# Altium footprint library STM32H750VB CoreBoard WeActStudio.PcbLib: 2 footprints
Each footprint in its own frame and in the unit in brackets; x right, y up, seen from the top. Pads: shape width x height; smd on the part's side, far side on the other; paste and mask are expansions set on the pad; w line width, h text height; cw(c..) or ccw(c..) is an arc to the next point about the centre after c.
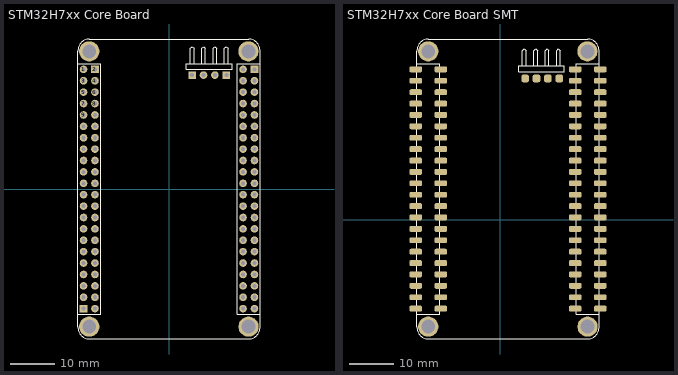
[diagram p0: the footprints below, top view; thin cyan lines are the x and y axes]

## STM32H7xx Core Board [mm] "STM32H7xx Core Board By WeActStudio"
height 0.508
pads (96):
  round 1.7 hole 0.9: 1(-19.05,26.67) 3(-19.05,24.13) 4(-16.51,24.13) 5(-19.05,21.59) 6(-16.51,21.59) 7(-19.05,19.05) 8(-16.51,19.05) 9(-19.05,16.51) 10(-16.51,16.51) 11(-19.05,13.97) 12(-16.51,13.97) 13(-19.05,11.43) 14(-16.51,11.43) 15(-19.05,8.89) 16(-16.51,8.89) 17(-19.05,6.35) 18(-16.51,6.35) 19(-19.05,3.81) 20(-16.51,3.81) 21(-19.05,1.27) 22(-16.51,1.27) 23(-19.05,-1.27) 24(-16.51,-1.27) 25(-19.05,-3.81) 26(-16.51,-3.81) 27(-19.05,-6.35) 28(-16.51,-6.35) 29(-19.05,-8.89) 30(-16.51,-8.89) 31(-19.05,-11.43) 32(-16.51,-11.43) 33(-19.05,-13.97) 34(-16.51,-13.97) 35(-19.05,-16.51) 36(-16.51,-16.51) 37(-19.05,-19.05) 38(-16.51,-19.05) 39(-19.05,-21.59) 40(-16.51,-21.59) 41(-19.05,-24.13) 42(-16.51,-24.13) 44(-16.51,-26.67) 45(16.51,-26.67) 46(19.05,-26.67) 47(16.51,-24.13) 48(19.05,-24.13) 49(16.51,-21.59) 50(19.05,-21.59) 51(16.51,-19.05) 52(19.05,-19.05) 53(16.51,-16.51) 54(19.05,-16.51) 55(16.51,-13.97) 56(19.05,-13.97) 57(16.51,-11.43) 58(19.05,-11.43) 59(16.51,-8.89) 60(19.05,-8.89) 61(16.51,-6.35) 62(19.05,-6.35) 63(16.51,-3.81) 64(19.05,-3.81) 65(16.51,-1.27) 66(19.05,-1.27) 67(16.51,1.27) 68(19.05,1.27) 69(16.51,3.81) 70(19.05,3.81) 71(16.51,6.35) 72(19.05,6.35) 73(16.51,8.89) 74(19.05,8.89) 75(16.51,11.43) 76(19.05,11.43) 77(16.51,13.97) 78(19.05,13.97) 79(16.51,16.51) 80(19.05,16.51) 81(16.51,19.05) 82(19.05,19.05) 83(16.51,21.59) 84(19.05,21.59) 85(16.51,24.13) 86(19.05,24.13) 87(16.51,26.67) 90(10.236,25.4) 91(7.696,25.4)
  rect 1.7x1.7 hole 0.9: 2(-16.51,26.67) 43(-19.05,-26.67) 88(19.05,26.67) 89(12.776,25.4) 92(5.156,25.4)
  round 4.5 hole 3.1: ""(-17.78,-30.69) ""(-17.78,30.69) ""(17.704,30.69) ""(17.729,-30.69)
Top Overlay:
  lines w0.2: -20.193,-27.94 -15.24,-27.94 -15.24,27.94 -20.193,27.94 ; 4.733,27.94 4.733,31.327 5.156,31.75 5.58,31.327 5.58,27.94 ; 7.273,27.94 7.273,31.327 7.696,31.75 8.12,31.327 8.12,27.94 ; 9.813,27.94 9.813,31.327 10.236,31.75 10.66,31.327 10.66,27.94 ; 12.353,27.94 12.353,31.327 12.776,31.75 13.2,31.327 13.2,27.94 ; 20.193,-27.94 15.24,-27.94 15.24,27.94 20.193,27.94 ; 3.886,26.67 3.886,27.94 14.046,27.94 14.046,26.67 3.886,26.67
  lines w0.254: -20.32,-30.69 ccw(c-17.675,-30.795) -17.78,-33.44 -15.24,-33.44 15.24,-33.44 17.78,-33.44 ccw(c17.675,-30.795) 20.32,-30.69 20.32,-27.94 20.32,27.94 20.32,30.69 ccw(c17.675,30.795) 17.78,33.44 15.24,33.44 -15.24,33.44 -17.78,33.44 ccw(c-17.675,30.795) -20.32,30.69 -20.32,27.94 -20.32,-27.94 -20.32,-30.69

## STM32H7xx Core Board SMT [mm] "STM32H7xx Core Board By WeActStudio"
pads (96):
  rrect50% 2.8x1.3 smd: 1(-18.791,33.528) 2(-13.213,33.528) 3(-18.791,30.988) 4(-13.213,30.988) 5(-18.791,28.448) 6(-13.213,28.448) 7(-18.791,25.908) 8(-13.213,25.908) 9(-18.791,23.368) 10(-13.213,23.368) 11(-18.791,20.828) 12(-13.213,20.828) 13(-18.791,18.288) 14(-13.213,18.288) 15(-18.791,15.748) 16(-13.213,15.748) 17(-18.791,13.208) 18(-13.213,13.208) 19(-18.791,10.668) 20(-13.213,10.668) 21(-18.791,8.128) 22(-13.213,8.128) 23(-18.791,5.588) 24(-13.213,5.588) 25(-18.791,3.048) 26(-13.213,3.048) 27(-18.791,0.508) 28(-13.213,0.508) 29(-18.791,-2.032) 30(-13.213,-2.032) 31(-18.791,-4.572) 32(-13.213,-4.572) 33(-18.791,-7.112) 34(-13.213,-7.112) 35(-18.791,-9.652) 36(-13.213,-9.652) 37(-18.791,-12.192) 38(-13.213,-12.192) 39(-18.791,-14.732) 40(-13.213,-14.732) 41(-18.791,-17.272) 42(-13.213,-17.272) 43(-18.791,-19.812) 44(-13.213,-19.812) 45(16.769,-19.812) 46(22.347,-19.812) 47(16.769,-17.272) 48(22.347,-17.272) 49(16.769,-14.732) 50(22.347,-14.732) 51(16.769,-12.192) 52(22.347,-12.192) 53(16.769,-9.652) 54(22.347,-9.652) 55(16.769,-7.112) 56(22.347,-7.112) 57(16.769,-4.572) 58(22.347,-4.572) 59(16.769,-2.032) 60(22.347,-2.032) 61(16.769,0.508) 62(22.347,0.508) 63(16.769,3.048) 64(22.347,3.048) 65(16.769,5.588) 66(22.347,5.588) 67(16.769,8.128) 68(22.347,8.128) 69(16.769,10.668) 70(22.347,10.668) 71(16.769,13.208) 72(22.347,13.208) 73(16.769,15.748) 74(22.347,15.748) 75(16.769,18.288) 76(22.347,18.288) 77(16.769,20.828) 78(22.347,20.828) 79(16.769,23.368) 80(22.347,23.368) 81(16.769,25.908) 82(22.347,25.908) 83(16.769,28.448) 84(22.347,28.448) 85(16.769,30.988) 86(22.347,30.988) 87(16.769,33.528) 88(22.347,33.528)
  rrect50% 1.7x1.7 smd: 89(13.208,31.496) 90(10.668,31.496) 91(8.128,31.496) 92(5.588,31.496)
  round 4.5 hole 3.1: ""(-16.002,-23.832) ""(-16.002,37.548) ""(19.482,37.548) ""(19.507,-23.832)
Top Overlay:
  lines w0.2: -18.415,-21.082 -13.462,-21.082 -13.462,34.798 -18.415,34.798 ; 4.987,34.29 4.987,37.677 5.41,38.1 5.834,37.677 5.834,34.29 ; 7.527,34.29 7.527,37.677 7.95,38.1 8.374,37.677 8.374,34.29 ; 10.067,34.29 10.067,37.677 10.49,38.1 10.914,37.677 10.914,34.29 ; 12.607,34.29 12.607,37.677 13.03,38.1 13.454,37.677 13.454,34.29 ; 21.971,-21.082 17.018,-21.082 17.018,34.798 21.971,34.798 ; 4.14,33.02 4.14,34.29 14.3,34.29 14.3,33.02 4.14,33.02
  lines w0.254: -18.542,-23.832 ccw(c-15.897,-23.937) -16.002,-26.582 -13.462,-26.582 17.018,-26.582 19.558,-26.582 ccw(c19.453,-23.937) 22.098,-23.832 22.098,-21.082 22.098,34.798 22.098,37.548 ccw(c19.453,37.653) 19.558,40.298 17.018,40.298 -13.462,40.298 -16.002,40.298 ccw(c-15.897,37.653) -18.542,37.548 -18.542,34.798 -18.542,-21.082 -18.542,-23.832